# Altium schematic symbol library TESEO-LIV3R.SchLib: 2 symbols
Pins are listed as number, name and electrical type; pins without a type are passive.

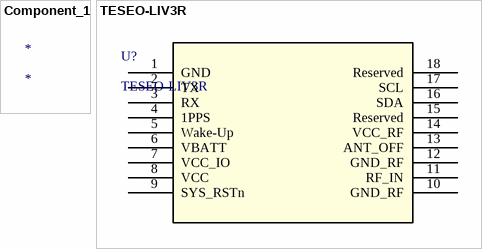
[diagram p0: symbols Component_1 to TESEO-LIV3R]

## Component_1
designator *

## TESEO-LIV3R
designator U?
Teseo ROM GNSS module; Manufacturer_Name: STMicroelectronics; Copyright: Copyright (C) 2025 Ultra Librarian. All rights reserved.; Manufacturer_Part_Number: TESEO-LIV3R; Datasheet: https://www.st.com/resource/en/datasheet/teseo-liv3r.pdf; RefDes: RefDes; Type: Type
footprint ARRAY_LIV3R_STM
pins: 1 GND (power), 2 TX, 3 RX, 4 1PPS, 5 Wake-Up, 6 VBATT, 7 VCC_IO (power), 8 VCC (power), 9 SYS_RSTn, 10 GND_RF (power), 11 RF_IN, 12 GND_RF (power), 13 ANT_OFF, 14 VCC_RF (power), 15 Reserved, 16 SDA, 17 SCL, 18 Reserved